# Altium footprint library PcbLib1.PcbLib: 1 footprints
Each footprint in its own frame and in the unit in brackets; x right, y up, seen from the top. Pads: shape width x height; smd on the part's side, far side on the other; paste and mask are expansions set on the pad; w line width, h text height; cw(c..) or ccw(c..) is an arc to the next point about the centre after c.
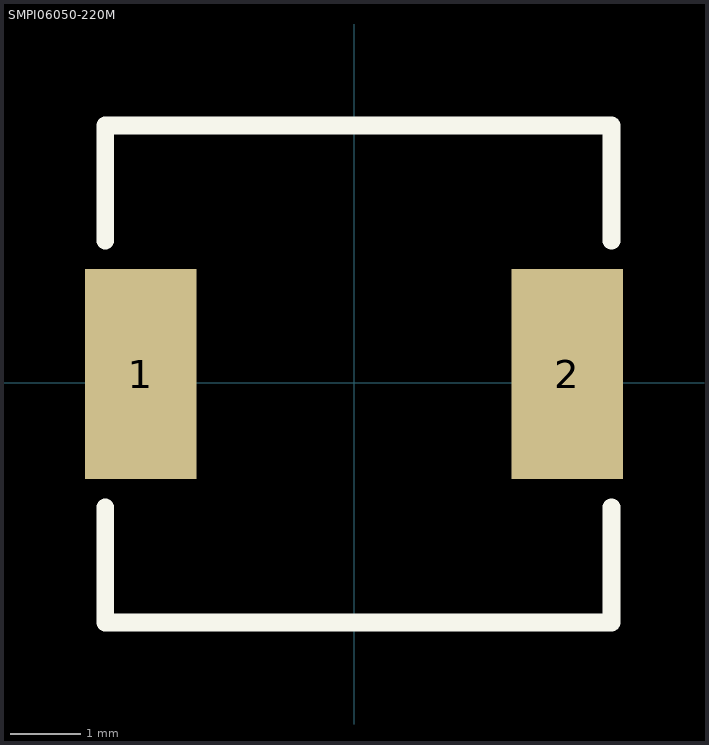
[diagram p0: the footprint, top view; thin cyan lines are the x and y axes]

## SMPI06050-220M [mm] "INDUCTOR POWER 22UH 7.7X6.6MM SMD"
pads (2):
  rect 1.6x3 smd: 1(-3.05,0.127) 2(3.05,0.127)
Top Overlay:
  lines w0.254: -3.556,-1.778 -3.556,-3.428 3.683,-3.428 3.683,-1.778 ; -3.556,2.032 -3.556,3.682 3.683,3.682 3.683,2.032